# Altium schematic symbol library kmilo17pet-NSC_Switcher.SchLib: 2226 symbols (part 48 of 59)
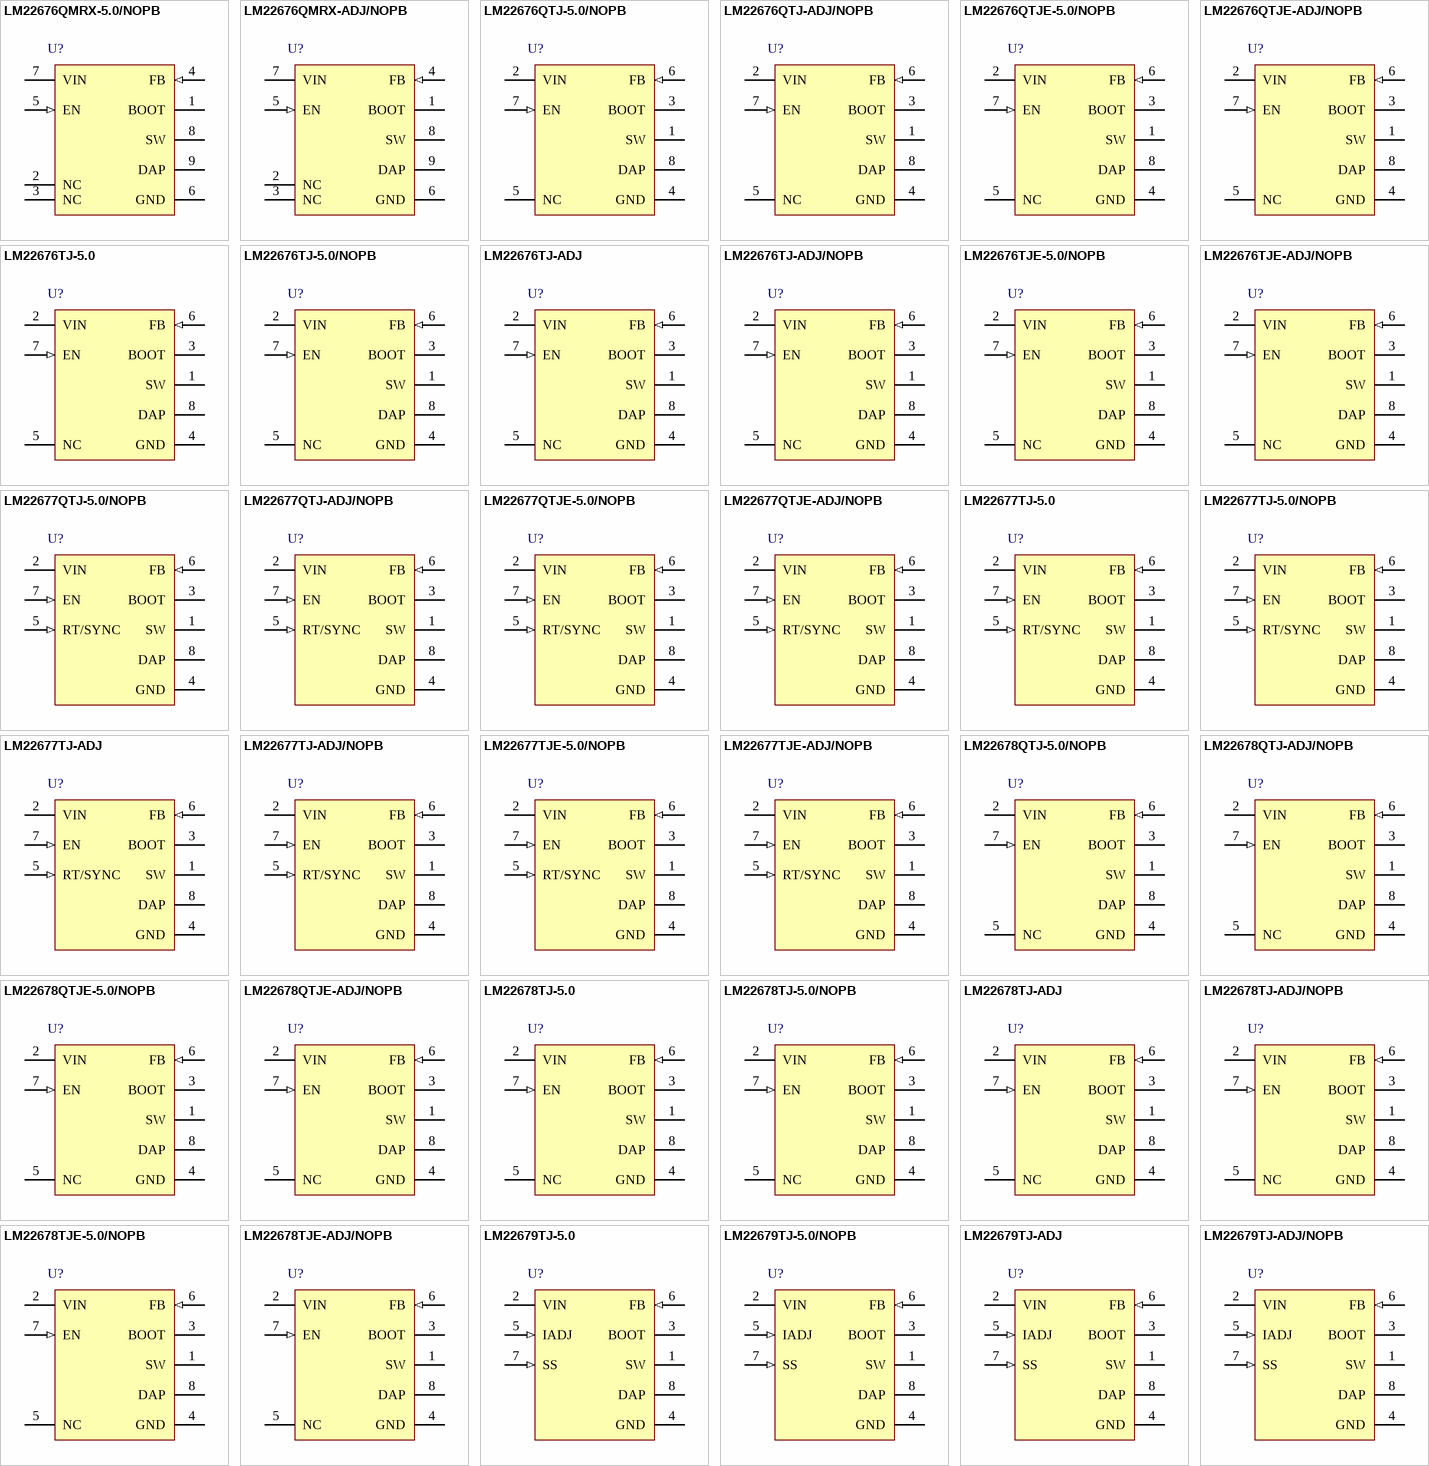
[diagram p116: symbols LM22676QMRX-5.0/NOPB to LM22679TJ-ADJ/NOPB]

## LM22676QMRX-ADJ/NOPB
designator U?
3A SIMPLE SWITCHER®, Step-Down Voltage Regulator with Precision Enable, Adjustable Output, Automotive Grade, 8-pin PSOP, 2500 Reel; PartNumber: LM22676QMRX-ADJ/NOPB; Manufacturer: National Semiconductor; PackageTopMarking: NSXYTT*L22676*QADJ; PowerWise: N; High-Reliability: Y; DatasheetVersion: Dec-2010; PackageVersion: revB, Dec-2007; PackageReference: MRA08B; PackageDescription: Molded, PSOP .193 x .154 x .058in, 8 Lead, .050in Pitch, Large DAP; RoHS: Y; PinCount: 8; CompType: Switcher; Code_JEDEC: MS-012-AA; ComponentLink1Description: Manufacturer URL; ComponentLink1URL: http://www.national.com/; ComponentLink2Description: LM22676 Datasheet; ComponentLink2URL: http://www.national.com/ds/LM/LM22676.pdf; ComponentLink3Description: LM22676 Web Page; ComponentLink3URL: http://www.national.com/pf/LM/LM22676.html; ComponentLink4Description: MRA08B Package Page; ComponentLink4URL: http://www.national.com/packaging/folders/mra08b.html
footprint MRA08B_N (SOIC, 8-Leads, Body 4.9x3.9mm, Pitch 1.27mm, Thermal Pad, IPC Medium Density)
footprint MRA08B_L (SOIC, 8-Leads, Body 4.9x3.9mm, Pitch 1.27mm, Thermal Pad, IPC High Density)
footprint MRA08B_M (SOIC, 8-Leads, Body 4.9x3.9mm, Pitch 1.27mm, Thermal Pad, IPC Low Density)
pins: 1 BOOT, 2 NC, 3 NC, 4 FB (in), 5 EN (in), 6 GND (power), 7 VIN (power), 8 SW (power), 9 DAP (power)

## LM22676QTJ-5.0/NOPB
designator U?
3A SIMPLE SWITCHER®, Step-Down Voltage Regulator with Precision Enable, 5V Output, Automotive Grade, 7-pin TO-263 Thin; PartNumber: LM22676QTJ-5.0/NOPB; Manufacturer: National Semiconductor; PackageTopMarking: NSUZXYTTE#*LM22676*QTJ-5.0; PowerWise: N; High-Reliability: Y; DatasheetVersion: Dec-2010; PackageVersion: revC, Jan-2008; PackageReference: TJ7A; PackageDescription: Thin TO-263, Molded, 9.85 x 10.16 x 2mm Body, 7 Lead, 1.27mm Pitch, Surface Mount; RoHS: Y; PinCount: 7; CompType: Switcher; ComponentLink1Description: Manufacturer URL; ComponentLink1URL: http://www.national.com/; ComponentLink2Description: LM22676 Datasheet; ComponentLink2URL: http://www.national.com/ds/LM/LM22676.pdf; ComponentLink3Description: LM22676 Web Page; ComponentLink3URL: http://www.national.com/pf/LM/LM22676.html; ComponentLink4Description: TJ7A Package Page; ComponentLink4URL: http://www.national.com/packaging/folders/tj7a.html
footprint TJ7A_N (D2-PAK, 8-Leads, Body 9.9x10.2mm, Pitch 1.27mm, Lead Span 14mm, IPC Medium Density)
footprint TJ7A_L (D2-PAK, 8-Leads, Body 9.9x10.2mm, Pitch 1.27mm, Lead Span 14mm, IPC High Density)
footprint TJ7A_M (D2-PAK, 8-Leads, Body 9.9x10.2mm, Pitch 1.27mm, Lead Span 14mm, IPC Low Density)
pins: 1 SW (power), 2 VIN (power), 3 BOOT, 4 GND (power), 5 NC, 6 FB (in), 7 EN (in), 8 DAP (power)

## LM22676QTJ-ADJ/NOPB
designator U?
3A SIMPLE SWITCHER®, Step-Down Voltage Regulator with Precision Enable, Adjustable Output, Automotive Grade, 7-pin TO-263 Thin, 1000 Reel; PartNumber: LM22676QTJ-ADJ/NOPB; Manufacturer: National Semiconductor; PackageTopMarking: NSUZXYTTE#*LM22676*QTJ-ADJ; PowerWise: N; High-Reliability: Y; DatasheetVersion: Dec-2010; PackageVersion: revC, Jan-2008; PackageReference: TJ7A; PackageDescription: Thin TO-263, Molded, 9.85 x 10.16 x 2mm Body, 7 Lead, 1.27mm Pitch, Surface Mount; RoHS: Y; PinCount: 7; CompType: Switcher; ComponentLink1Description: Manufacturer URL; ComponentLink1URL: http://www.national.com/; ComponentLink2Description: LM22676 Datasheet; ComponentLink2URL: http://www.national.com/ds/LM/LM22676.pdf; ComponentLink3Description: LM22676 Web Page; ComponentLink3URL: http://www.national.com/pf/LM/LM22676.html; ComponentLink4Description: TJ7A Package Page; ComponentLink4URL: http://www.national.com/packaging/folders/tj7a.html
footprint TJ7A_N (D2-PAK, 8-Leads, Body 9.9x10.2mm, Pitch 1.27mm, Lead Span 14mm, IPC Medium Density)
footprint TJ7A_L (D2-PAK, 8-Leads, Body 9.9x10.2mm, Pitch 1.27mm, Lead Span 14mm, IPC High Density)
footprint TJ7A_M (D2-PAK, 8-Leads, Body 9.9x10.2mm, Pitch 1.27mm, Lead Span 14mm, IPC Low Density)
pins: 1 SW (power), 2 VIN (power), 3 BOOT, 4 GND (power), 5 NC, 6 FB (in), 7 EN (in), 8 DAP (power)

## LM22676QTJE-5.0/NOPB
designator U?
3A SIMPLE SWITCHER®, Step-Down Voltage Regulator with Precision Enable, 5V Output, Automotive Grade, 7-pin TO-263 Thin; PartNumber: LM22676QTJE-5.0/NOPB; Manufacturer: National Semiconductor; PackageTopMarking: NSUZXYTTE#*LM22676*QTJ-5.0; PowerWise: N; High-Reliability: Y; DatasheetVersion: Dec-2010; PackageVersion: revC, Jan-2008; PackageReference: TJ7A; PackageDescription: Thin TO-263, Molded, 9.85 x 10.16 x 2mm Body, 7 Lead, 1.27mm Pitch, Surface Mount; RoHS: Y; PinCount: 7; CompType: Switcher; ComponentLink1Description: Manufacturer URL; ComponentLink1URL: http://www.national.com/; ComponentLink2Description: LM22676 Datasheet; ComponentLink2URL: http://www.national.com/ds/LM/LM22676.pdf; ComponentLink3Description: LM22676 Web Page; ComponentLink3URL: http://www.national.com/pf/LM/LM22676.html; ComponentLink4Description: TJ7A Package Page; ComponentLink4URL: http://www.national.com/packaging/folders/tj7a.html
footprint TJ7A_N (D2-PAK, 8-Leads, Body 9.9x10.2mm, Pitch 1.27mm, Lead Span 14mm, IPC Medium Density)
footprint TJ7A_L (D2-PAK, 8-Leads, Body 9.9x10.2mm, Pitch 1.27mm, Lead Span 14mm, IPC High Density)
footprint TJ7A_M (D2-PAK, 8-Leads, Body 9.9x10.2mm, Pitch 1.27mm, Lead Span 14mm, IPC Low Density)
pins: 1 SW (power), 2 VIN (power), 3 BOOT, 4 GND (power), 5 NC, 6 FB (in), 7 EN (in), 8 DAP (power)

## LM22676QTJE-ADJ/NOPB
designator U?
3A SIMPLE SWITCHER®, Step-Down Voltage Regulator with Precision Enable, Adjustable Output, Automotive Grade, 7-pin TO-263 Thin, 250 Reel; PartNumber: LM22676QTJE-ADJ/NOPB; Manufacturer: National Semiconductor; PackageTopMarking: NSUZXYTTE#*LM22676*QTJ-ADJ; PowerWise: N; High-Reliability: Y; DatasheetVersion: Dec-2010; PackageVersion: revC, Jan-2008; PackageReference: TJ7A; PackageDescription: Thin TO-263, Molded, 9.85 x 10.16 x 2mm Body, 7 Lead, 1.27mm Pitch, Surface Mount; RoHS: Y; PinCount: 7; CompType: Switcher; ComponentLink1Description: Manufacturer URL; ComponentLink1URL: http://www.national.com/; ComponentLink2Description: LM22676 Datasheet; ComponentLink2URL: http://www.national.com/ds/LM/LM22676.pdf; ComponentLink3Description: LM22676 Web Page; ComponentLink3URL: http://www.national.com/pf/LM/LM22676.html; ComponentLink4Description: TJ7A Package Page; ComponentLink4URL: http://www.national.com/packaging/folders/tj7a.html
footprint TJ7A_N (D2-PAK, 8-Leads, Body 9.9x10.2mm, Pitch 1.27mm, Lead Span 14mm, IPC Medium Density)
footprint TJ7A_L (D2-PAK, 8-Leads, Body 9.9x10.2mm, Pitch 1.27mm, Lead Span 14mm, IPC High Density)
footprint TJ7A_M (D2-PAK, 8-Leads, Body 9.9x10.2mm, Pitch 1.27mm, Lead Span 14mm, IPC Low Density)
pins: 1 SW (power), 2 VIN (power), 3 BOOT, 4 GND (power), 5 NC, 6 FB (in), 7 EN (in), 8 DAP (power)

## LM22676TJ-5.0
designator U?
3A SIMPLE SWITCHER® Step-Down Voltage Regulator with Precision Enable, 7-pin TO-263 Thin; PartNumber: LM22676TJ-5.0; Manufacturer: National Semiconductor; PackageTopMarking: NSUZXYTTE#*LM22676*TJ-5.0; PowerWise: N; High-Reliability: Y; DatasheetVersion: Dec-2010; PackageVersion: revC, Jan-2008; PackageReference: TJ7A; PackageDescription: Thin TO-263, Molded, 9.85 x 10.16 x 2mm Body, 7 Lead, 1.27mm Pitch, Surface Mount; RoHS: Y; PinCount: 7; CompType: Switcher; ComponentLink1Description: Manufacturer URL; ComponentLink1URL: http://www.national.com/; ComponentLink2Description: LM22676 Datasheet; ComponentLink2URL: http://www.national.com/ds/LM/LM22676.pdf; ComponentLink3Description: LM22676 Web Page; ComponentLink3URL: http://www.national.com/pf/LM/LM22676.html; ComponentLink4Description: TJ7A Package Page; ComponentLink4URL: http://www.national.com/packaging/folders/tj7a.html
footprint TJ7A_N (D2-PAK, 8-Leads, Body 9.9x10.2mm, Pitch 1.27mm, Lead Span 14mm, IPC Medium Density)
footprint TJ7A_L (D2-PAK, 8-Leads, Body 9.9x10.2mm, Pitch 1.27mm, Lead Span 14mm, IPC High Density)
footprint TJ7A_M (D2-PAK, 8-Leads, Body 9.9x10.2mm, Pitch 1.27mm, Lead Span 14mm, IPC Low Density)
pins: 1 SW (power), 2 VIN (power), 3 BOOT, 4 GND (power), 5 NC, 6 FB (in), 7 EN (in), 8 DAP (power)

## LM22676TJ-5.0/NOPB
designator U?
3A SIMPLE SWITCHER®, Step-Down Voltage Regulator with Precision Enable, 7-pin TO-263 Thin, Pb-Free; PartNumber: LM22676TJ-5.0/NOPB; Manufacturer: National Semiconductor; PackageTopMarking: NSUZXYTTE#*LM22676*TJ-5.0; PowerWise: N; High-Reliability: Y; DatasheetVersion: Dec-2010; PackageVersion: revC, Jan-2008; PackageReference: TJ7A; PackageDescription: Thin TO-263, Molded, 9.85 x 10.16 x 2mm Body, 7 Lead, 1.27mm Pitch, Surface Mount; RoHS: Y; PinCount: 7; CompType: Switcher; ComponentLink1Description: Manufacturer URL; ComponentLink1URL: http://www.national.com/; ComponentLink2Description: LM22676 Datasheet; ComponentLink2URL: http://www.national.com/ds/LM/LM22676.pdf; ComponentLink3Description: LM22676 Web Page; ComponentLink3URL: http://www.national.com/pf/LM/LM22676.html; ComponentLink4Description: TJ7A Package Page; ComponentLink4URL: http://www.national.com/packaging/folders/tj7a.html
footprint TJ7A_N (D2-PAK, 8-Leads, Body 9.9x10.2mm, Pitch 1.27mm, Lead Span 14mm, IPC Medium Density)
footprint TJ7A_L (D2-PAK, 8-Leads, Body 9.9x10.2mm, Pitch 1.27mm, Lead Span 14mm, IPC High Density)
footprint TJ7A_M (D2-PAK, 8-Leads, Body 9.9x10.2mm, Pitch 1.27mm, Lead Span 14mm, IPC Low Density)
pins: 1 SW (power), 2 VIN (power), 3 BOOT, 4 GND (power), 5 NC, 6 FB (in), 7 EN (in), 8 DAP (power)

## LM22676TJ-ADJ
designator U?
3A SIMPLE SWITCHER® Step-Down Voltage Regulator with Precision Enable, 7-pin TO-263 Thin; PartNumber: LM22676TJ-ADJ; Manufacturer: National Semiconductor; PackageTopMarking: NSUZXYTTE#*LM22676*TJ-ADJ; PowerWise: N; High-Reliability: Y; DatasheetVersion: Dec-2010; PackageVersion: revC, Jan-2008; PackageReference: TJ7A; PackageDescription: Thin TO-263, Molded, 9.85 x 10.16 x 2mm Body, 7 Lead, 1.27mm Pitch, Surface Mount; RoHS: Y; PinCount: 7; CompType: Switcher; ComponentLink1Description: Manufacturer URL; ComponentLink1URL: http://www.national.com/; ComponentLink2Description: LM22676 Datasheet; ComponentLink2URL: http://www.national.com/ds/LM/LM22676.pdf; ComponentLink3Description: LM22676 Web Page; ComponentLink3URL: http://www.national.com/pf/LM/LM22676.html; ComponentLink4Description: TJ7A Package Page; ComponentLink4URL: http://www.national.com/packaging/folders/tj7a.html
footprint TJ7A_N (D2-PAK, 8-Leads, Body 9.9x10.2mm, Pitch 1.27mm, Lead Span 14mm, IPC Medium Density)
footprint TJ7A_L (D2-PAK, 8-Leads, Body 9.9x10.2mm, Pitch 1.27mm, Lead Span 14mm, IPC High Density)
footprint TJ7A_M (D2-PAK, 8-Leads, Body 9.9x10.2mm, Pitch 1.27mm, Lead Span 14mm, IPC Low Density)
pins: 1 SW (power), 2 VIN (power), 3 BOOT, 4 GND (power), 5 NC, 6 FB (in), 7 EN (in), 8 DAP (power)

## LM22676TJ-ADJ/NOPB
designator U?
3A SIMPLE SWITCHER®, Step-Down Voltage Regulator with Precision Enable, 7-pin TO-263 Thin, Pb-Free; PartNumber: LM22676TJ-ADJ/NOPB; Manufacturer: National Semiconductor; PackageTopMarking: NSUZXYTTE#*LM22676*TJ-ADJ; PowerWise: N; High-Reliability: Y; DatasheetVersion: Dec-2010; PackageVersion: revC, Jan-2008; PackageReference: TJ7A; PackageDescription: Thin TO-263, Molded, 9.85 x 10.16 x 2mm Body, 7 Lead, 1.27mm Pitch, Surface Mount; RoHS: Y; PinCount: 7; CompType: Switcher; ComponentLink1Description: Manufacturer URL; ComponentLink1URL: http://www.national.com/; ComponentLink2Description: LM22676 Datasheet; ComponentLink2URL: http://www.national.com/ds/LM/LM22676.pdf; ComponentLink3Description: LM22676 Web Page; ComponentLink3URL: http://www.national.com/pf/LM/LM22676.html; ComponentLink4Description: TJ7A Package Page; ComponentLink4URL: http://www.national.com/packaging/folders/tj7a.html
footprint TJ7A_N (D2-PAK, 8-Leads, Body 9.9x10.2mm, Pitch 1.27mm, Lead Span 14mm, IPC Medium Density)
footprint TJ7A_L (D2-PAK, 8-Leads, Body 9.9x10.2mm, Pitch 1.27mm, Lead Span 14mm, IPC High Density)
footprint TJ7A_M (D2-PAK, 8-Leads, Body 9.9x10.2mm, Pitch 1.27mm, Lead Span 14mm, IPC Low Density)
pins: 1 SW (power), 2 VIN (power), 3 BOOT, 4 GND (power), 5 NC, 6 FB (in), 7 EN (in), 8 DAP (power)

## LM22676TJE-5.0/NOPB
designator U?
3A SIMPLE SWITCHER®, Step-Down Voltage Regulator with Precision Enable, 7-pin TO-263 Thin, Pb-Free; PartNumber: LM22676TJE-5.0/NOPB; Manufacturer: National Semiconductor; PackageTopMarking: NSUZXYTTE#*LM22676*TJ-5.0; PowerWise: N; High-Reliability: Y; DatasheetVersion: Dec-2010; PackageVersion: revC, Jan-2008; PackageReference: TJ7A; PackageDescription: Thin TO-263, Molded, 9.85 x 10.16 x 2mm Body, 7 Lead, 1.27mm Pitch, Surface Mount; RoHS: Y; PinCount: 7; CompType: Switcher; ComponentLink1Description: Manufacturer URL; ComponentLink1URL: http://www.national.com/; ComponentLink2Description: LM22676 Datasheet; ComponentLink2URL: http://www.national.com/ds/LM/LM22676.pdf; ComponentLink3Description: LM22676 Web Page; ComponentLink3URL: http://www.national.com/pf/LM/LM22676.html; ComponentLink4Description: TJ7A Package Page; ComponentLink4URL: http://www.national.com/packaging/folders/tj7a.html
footprint TJ7A_N (D2-PAK, 8-Leads, Body 9.9x10.2mm, Pitch 1.27mm, Lead Span 14mm, IPC Medium Density)
footprint TJ7A_L (D2-PAK, 8-Leads, Body 9.9x10.2mm, Pitch 1.27mm, Lead Span 14mm, IPC High Density)
footprint TJ7A_M (D2-PAK, 8-Leads, Body 9.9x10.2mm, Pitch 1.27mm, Lead Span 14mm, IPC Low Density)
pins: 1 SW (power), 2 VIN (power), 3 BOOT, 4 GND (power), 5 NC, 6 FB (in), 7 EN (in), 8 DAP (power)

## LM22676TJE-ADJ/NOPB
designator U?
3A SIMPLE SWITCHER®, Step-Down Voltage Regulator with Precision Enable, 7-pin TO-263 Thin, Pb-Free; PartNumber: LM22676TJE-ADJ/NOPB; Manufacturer: National Semiconductor; PackageTopMarking: NSUZXYTTE#*LM22676*TJ-ADJ; PowerWise: N; High-Reliability: Y; DatasheetVersion: Dec-2010; PackageVersion: revC, Jan-2008; PackageReference: TJ7A; PackageDescription: Thin TO-263, Molded, 9.85 x 10.16 x 2mm Body, 7 Lead, 1.27mm Pitch, Surface Mount; RoHS: Y; PinCount: 7; CompType: Switcher; ComponentLink1Description: Manufacturer URL; ComponentLink1URL: http://www.national.com/; ComponentLink2Description: LM22676 Datasheet; ComponentLink2URL: http://www.national.com/ds/LM/LM22676.pdf; ComponentLink3Description: LM22676 Web Page; ComponentLink3URL: http://www.national.com/pf/LM/LM22676.html; ComponentLink4Description: TJ7A Package Page; ComponentLink4URL: http://www.national.com/packaging/folders/tj7a.html
footprint TJ7A_N (D2-PAK, 8-Leads, Body 9.9x10.2mm, Pitch 1.27mm, Lead Span 14mm, IPC Medium Density)
footprint TJ7A_L (D2-PAK, 8-Leads, Body 9.9x10.2mm, Pitch 1.27mm, Lead Span 14mm, IPC High Density)
footprint TJ7A_M (D2-PAK, 8-Leads, Body 9.9x10.2mm, Pitch 1.27mm, Lead Span 14mm, IPC Low Density)
pins: 1 SW (power), 2 VIN (power), 3 BOOT, 4 GND (power), 5 NC, 6 FB (in), 7 EN (in), 8 DAP (power)

## LM22677QTJ-5.0/NOPB
designator U?
5A SIMPLE SWITCHER®, Step-Down Voltage Regulator with Synchronization or Adjustable Switching Frequency, 5V Output, Automotive Grade, 7-pin TO-263 Thin, 1000 Reel; PartNumber: LM22677QTJ-5.0/NOPB; Manufacturer: National Semiconductor; PackageTopMarking: NSUZXYTTE#*LM22677*QTJ-5.0; PowerWise: N; High-Reliability: Y; DatasheetVersion: Jan-2011; PackageVersion: revC, Jan-2008; PackageReference: TJ7A; PackageDescription: Thin TO-263, Molded, 9.85 x 10.16 x 2mm Body, 7 Lead, 1.27mm Pitch, Surface Mount; RoHS: Y; PinCount: 7; CompType: Switcher; ComponentLink1Description: Manufacturer URL; ComponentLink1URL: http://www.national.com/; ComponentLink2Description: LM22677 Datasheet; ComponentLink2URL: http://www.national.com/ds/LM/LM22677.pdf; ComponentLink3Description: LM22677 Web Page; ComponentLink3URL: http://www.national.com/pf/LM/LM22677.html; ComponentLink4Description: TJ7A Package Page; ComponentLink4URL: http://www.national.com/packaging/folders/tj7a.html
footprint TJ7A_N (D2-PAK, 8-Leads, Body 9.9x10.2mm, Pitch 1.27mm, Lead Span 14mm, IPC Medium Density)
footprint TJ7A_L (D2-PAK, 8-Leads, Body 9.9x10.2mm, Pitch 1.27mm, Lead Span 14mm, IPC High Density)
footprint TJ7A_M (D2-PAK, 8-Leads, Body 9.9x10.2mm, Pitch 1.27mm, Lead Span 14mm, IPC Low Density)
pins: 1 SW (power), 2 VIN (power), 3 BOOT, 4 GND (power), 5 RT/SYNC (in), 6 FB (in), 7 EN (in), 8 DAP (power)

## LM22677QTJ-ADJ/NOPB
designator U?
5A SIMPLE SWITCHER®, Step-Down Voltage Regulator with Synchronization or Adjustable Switching Frequency, Adjustable Output, Automotive Grade, 7-pin TO-263 Thin, 1000 Reel; PartNumber: LM22677QTJ-ADJ/NOPB; Manufacturer: National Semiconductor; PackageTopMarking: NSUZXYTTE#*LM22677*QTJ-ADJ; PowerWise: N; High-Reliability: Y; DatasheetVersion: Jan-2011; PackageVersion: revC, Jan-2008; PackageReference: TJ7A; PackageDescription: Thin TO-263, Molded, 9.85 x 10.16 x 2mm Body, 7 Lead, 1.27mm Pitch, Surface Mount; RoHS: Y; PinCount: 7; CompType: Switcher; ComponentLink1Description: Manufacturer URL; ComponentLink1URL: http://www.national.com/; ComponentLink2Description: LM22677 Datasheet; ComponentLink2URL: http://www.national.com/ds/LM/LM22677.pdf; ComponentLink3Description: LM22677 Web Page; ComponentLink3URL: http://www.national.com/pf/LM/LM22677.html; ComponentLink4Description: TJ7A Package Page; ComponentLink4URL: http://www.national.com/packaging/folders/tj7a.html
footprint TJ7A_N (D2-PAK, 8-Leads, Body 9.9x10.2mm, Pitch 1.27mm, Lead Span 14mm, IPC Medium Density)
footprint TJ7A_L (D2-PAK, 8-Leads, Body 9.9x10.2mm, Pitch 1.27mm, Lead Span 14mm, IPC High Density)
footprint TJ7A_M (D2-PAK, 8-Leads, Body 9.9x10.2mm, Pitch 1.27mm, Lead Span 14mm, IPC Low Density)
pins: 1 SW (power), 2 VIN (power), 3 BOOT, 4 GND (power), 5 RT/SYNC (in), 6 FB (in), 7 EN (in), 8 DAP (power)

## LM22677QTJE-5.0/NOPB
designator U?
5A SIMPLE SWITCHER®, Step-Down Voltage Regulator with Synchronization or Adjustable Switching Frequency, 5V Output, Automotive Grade, 7-pin TO-263 Thin, 250 Reel; PartNumber: LM22677QTJE-5.0/NOPB; Manufacturer: National Semiconductor; PackageTopMarking: NSUZXYTTE#*LM22677*QTJ-5.0; PowerWise: N; High-Reliability: Y; DatasheetVersion: Jan-2011; PackageVersion: revC, Jan-2008; PackageReference: TJ7A; PackageDescription: Thin TO-263, Molded, 9.85 x 10.16 x 2mm Body, 7 Lead, 1.27mm Pitch, Surface Mount; RoHS: Y; PinCount: 7; CompType: Switcher; ComponentLink1Description: Manufacturer URL; ComponentLink1URL: http://www.national.com/; ComponentLink2Description: LM22677 Datasheet; ComponentLink2URL: http://www.national.com/ds/LM/LM22677.pdf; ComponentLink3Description: LM22677 Web Page; ComponentLink3URL: http://www.national.com/pf/LM/LM22677.html; ComponentLink4Description: TJ7A Package Page; ComponentLink4URL: http://www.national.com/packaging/folders/tj7a.html
footprint TJ7A_N (D2-PAK, 8-Leads, Body 9.9x10.2mm, Pitch 1.27mm, Lead Span 14mm, IPC Medium Density)
footprint TJ7A_L (D2-PAK, 8-Leads, Body 9.9x10.2mm, Pitch 1.27mm, Lead Span 14mm, IPC High Density)
footprint TJ7A_M (D2-PAK, 8-Leads, Body 9.9x10.2mm, Pitch 1.27mm, Lead Span 14mm, IPC Low Density)
pins: 1 SW (power), 2 VIN (power), 3 BOOT, 4 GND (power), 5 RT/SYNC (in), 6 FB (in), 7 EN (in), 8 DAP (power)

## LM22677QTJE-ADJ/NOPB
designator U?
5A SIMPLE SWITCHER®, Step-Down Voltage Regulator with Synchronization or Adjustable Switching Frequency, Adjustable Output, Automotive Grade, 7-pin TO-263 Thin; PartNumber: LM22677QTJE-ADJ/NOPB; Manufacturer: National Semiconductor; PackageTopMarking: NSUZXYTTE#*LM22677*QTJ-ADJ; PowerWise: N; High-Reliability: Y; DatasheetVersion: Jan-2011; PackageVersion: revC, Jan-2008; PackageReference: TJ7A; PackageDescription: Thin TO-263, Molded, 9.85 x 10.16 x 2mm Body, 7 Lead, 1.27mm Pitch, Surface Mount; RoHS: Y; PinCount: 7; CompType: Switcher; ComponentLink1Description: Manufacturer URL; ComponentLink1URL: http://www.national.com/; ComponentLink2Description: LM22677 Datasheet; ComponentLink2URL: http://www.national.com/ds/LM/LM22677.pdf; ComponentLink3Description: LM22677 Web Page; ComponentLink3URL: http://www.national.com/pf/LM/LM22677.html; ComponentLink4Description: TJ7A Package Page; ComponentLink4URL: http://www.national.com/packaging/folders/tj7a.html
footprint TJ7A_N (D2-PAK, 8-Leads, Body 9.9x10.2mm, Pitch 1.27mm, Lead Span 14mm, IPC Medium Density)
footprint TJ7A_L (D2-PAK, 8-Leads, Body 9.9x10.2mm, Pitch 1.27mm, Lead Span 14mm, IPC High Density)
footprint TJ7A_M (D2-PAK, 8-Leads, Body 9.9x10.2mm, Pitch 1.27mm, Lead Span 14mm, IPC Low Density)
pins: 1 SW (power), 2 VIN (power), 3 BOOT, 4 GND (power), 5 RT/SYNC (in), 6 FB (in), 7 EN (in), 8 DAP (power)

## LM22677TJ-5.0
designator U?
5A SIMPLE SWITCHER® Step-Down Voltage Regulator with Synchronization or Adjustable Switching Frequency, 7-pin TO-263 Thin; PartNumber: LM22677TJ-5.0; Manufacturer: National Semiconductor; PackageTopMarking: NSUZXYTTE#*LM22677*TJ-5.0; PowerWise: N; High-Reliability: Y; DatasheetVersion: Jan-2011; PackageVersion: revC, Jan-2008; PackageReference: TJ7A; PackageDescription: Thin TO-263, Molded, 9.85 x 10.16 x 2mm Body, 7 Lead, 1.27mm Pitch, Surface Mount; RoHS: Y; PinCount: 7; CompType: Switcher; ComponentLink1Description: Manufacturer URL; ComponentLink1URL: http://www.national.com/; ComponentLink2Description: LM22677 Datasheet; ComponentLink2URL: http://www.national.com/ds/LM/LM22677.pdf; ComponentLink3Description: LM22677 Web Page; ComponentLink3URL: http://www.national.com/pf/LM/LM22677.html; ComponentLink4Description: TJ7A Package Page; ComponentLink4URL: http://www.national.com/packaging/folders/tj7a.html
footprint TJ7A_N (D2-PAK, 8-Leads, Body 9.9x10.2mm, Pitch 1.27mm, Lead Span 14mm, IPC Medium Density)
footprint TJ7A_L (D2-PAK, 8-Leads, Body 9.9x10.2mm, Pitch 1.27mm, Lead Span 14mm, IPC High Density)
footprint TJ7A_M (D2-PAK, 8-Leads, Body 9.9x10.2mm, Pitch 1.27mm, Lead Span 14mm, IPC Low Density)
pins: 1 SW (power), 2 VIN (power), 3 BOOT, 4 GND (power), 5 RT/SYNC (in), 6 FB (in), 7 EN (in), 8 DAP (power)

## LM22677TJ-5.0/NOPB
designator U?
5A SIMPLE SWITCHER®, Step-Down Voltage Regulator with Synchronization or Adjustable Switching Frequency, 7-pin TO-263 Thin, Pb-Free; PartNumber: LM22677TJ-5.0/NOPB; Manufacturer: National Semiconductor; PackageTopMarking: NSUZXYTTE#*LM22677*TJ-5.0; PowerWise: N; High-Reliability: Y; DatasheetVersion: Jan-2011; PackageVersion: revC, Jan-2008; PackageReference: TJ7A; PackageDescription: Thin TO-263, Molded, 9.85 x 10.16 x 2mm Body, 7 Lead, 1.27mm Pitch, Surface Mount; RoHS: Y; PinCount: 7; CompType: Switcher; ComponentLink1Description: Manufacturer URL; ComponentLink1URL: http://www.national.com/; ComponentLink2Description: LM22677 Datasheet; ComponentLink2URL: http://www.national.com/ds/LM/LM22677.pdf; ComponentLink3Description: LM22677 Web Page; ComponentLink3URL: http://www.national.com/pf/LM/LM22677.html; ComponentLink4Description: TJ7A Package Page; ComponentLink4URL: http://www.national.com/packaging/folders/tj7a.html
footprint TJ7A_N (D2-PAK, 8-Leads, Body 9.9x10.2mm, Pitch 1.27mm, Lead Span 14mm, IPC Medium Density)
footprint TJ7A_L (D2-PAK, 8-Leads, Body 9.9x10.2mm, Pitch 1.27mm, Lead Span 14mm, IPC High Density)
footprint TJ7A_M (D2-PAK, 8-Leads, Body 9.9x10.2mm, Pitch 1.27mm, Lead Span 14mm, IPC Low Density)
pins: 1 SW (power), 2 VIN (power), 3 BOOT, 4 GND (power), 5 RT/SYNC (in), 6 FB (in), 7 EN (in), 8 DAP (power)

## LM22677TJ-ADJ
designator U?
5A SIMPLE SWITCHER® Step-Down Voltage Regulator with Synchronization or Adjustable Switching Frequency, 7-pin TO-263 Thin; PartNumber: LM22677TJ-ADJ; Manufacturer: National Semiconductor; PackageTopMarking: NSUZXYTTE#*LM22677*TJ-ADJ; PowerWise: N; High-Reliability: Y; DatasheetVersion: Jan-2011; PackageVersion: revC, Jan-2008; PackageReference: TJ7A; PackageDescription: Thin TO-263, Molded, 9.85 x 10.16 x 2mm Body, 7 Lead, 1.27mm Pitch, Surface Mount; RoHS: Y; PinCount: 7; CompType: Switcher; ComponentLink1Description: Manufacturer URL; ComponentLink1URL: http://www.national.com/; ComponentLink2Description: LM22677 Datasheet; ComponentLink2URL: http://www.national.com/ds/LM/LM22677.pdf; ComponentLink3Description: LM22677 Web Page; ComponentLink3URL: http://www.national.com/pf/LM/LM22677.html; ComponentLink4Description: TJ7A Package Page; ComponentLink4URL: http://www.national.com/packaging/folders/tj7a.html
footprint TJ7A_N (D2-PAK, 8-Leads, Body 9.9x10.2mm, Pitch 1.27mm, Lead Span 14mm, IPC Medium Density)
footprint TJ7A_L (D2-PAK, 8-Leads, Body 9.9x10.2mm, Pitch 1.27mm, Lead Span 14mm, IPC High Density)
footprint TJ7A_M (D2-PAK, 8-Leads, Body 9.9x10.2mm, Pitch 1.27mm, Lead Span 14mm, IPC Low Density)
pins: 1 SW (power), 2 VIN (power), 3 BOOT, 4 GND (power), 5 RT/SYNC (in), 6 FB (in), 7 EN (in), 8 DAP (power)

## LM22677TJ-ADJ/NOPB
designator U?
5A SIMPLE SWITCHER®, Step-Down Voltage Regulator with Synchronization or Adjustable Switching Frequency, 7-pin TO-263 Thin, Pb-Free; PartNumber: LM22677TJ-ADJ/NOPB; Manufacturer: National Semiconductor; PackageTopMarking: NSUZXYTTE#*LM22677*TJ-ADJ; PowerWise: N; High-Reliability: Y; DatasheetVersion: Jan-2011; PackageVersion: revC, Jan-2008; PackageReference: TJ7A; PackageDescription: Thin TO-263, Molded, 9.85 x 10.16 x 2mm Body, 7 Lead, 1.27mm Pitch, Surface Mount; RoHS: Y; PinCount: 7; CompType: Switcher; ComponentLink1Description: Manufacturer URL; ComponentLink1URL: http://www.national.com/; ComponentLink2Description: LM22677 Datasheet; ComponentLink2URL: http://www.national.com/ds/LM/LM22677.pdf; ComponentLink3Description: LM22677 Web Page; ComponentLink3URL: http://www.national.com/pf/LM/LM22677.html; ComponentLink4Description: TJ7A Package Page; ComponentLink4URL: http://www.national.com/packaging/folders/tj7a.html
footprint TJ7A_N (D2-PAK, 8-Leads, Body 9.9x10.2mm, Pitch 1.27mm, Lead Span 14mm, IPC Medium Density)
footprint TJ7A_L (D2-PAK, 8-Leads, Body 9.9x10.2mm, Pitch 1.27mm, Lead Span 14mm, IPC High Density)
footprint TJ7A_M (D2-PAK, 8-Leads, Body 9.9x10.2mm, Pitch 1.27mm, Lead Span 14mm, IPC Low Density)
pins: 1 SW (power), 2 VIN (power), 3 BOOT, 4 GND (power), 5 RT/SYNC (in), 6 FB (in), 7 EN (in), 8 DAP (power)

## LM22677TJE-5.0/NOPB
designator U?
5A SIMPLE SWITCHER®, Step-Down Voltage Regulator with Synchronization or Adjustable Switching Frequency, 7-pin TO-263 Thin, Pb-Free; PartNumber: LM22677TJE-5.0/NOPB; Manufacturer: National Semiconductor; PackageTopMarking: NSUZXYTTE#*LM22677*TJ-5.0; PowerWise: N; High-Reliability: Y; DatasheetVersion: Jan-2011; PackageVersion: revC, Jan-2008; PackageReference: TJ7A; PackageDescription: Thin TO-263, Molded, 9.85 x 10.16 x 2mm Body, 7 Lead, 1.27mm Pitch, Surface Mount; RoHS: Y; PinCount: 7; CompType: Switcher; ComponentLink1Description: Manufacturer URL; ComponentLink1URL: http://www.national.com/; ComponentLink2Description: LM22677 Datasheet; ComponentLink2URL: http://www.national.com/ds/LM/LM22677.pdf; ComponentLink3Description: LM22677 Web Page; ComponentLink3URL: http://www.national.com/pf/LM/LM22677.html; ComponentLink4Description: TJ7A Package Page; ComponentLink4URL: http://www.national.com/packaging/folders/tj7a.html
footprint TJ7A_N (D2-PAK, 8-Leads, Body 9.9x10.2mm, Pitch 1.27mm, Lead Span 14mm, IPC Medium Density)
footprint TJ7A_L (D2-PAK, 8-Leads, Body 9.9x10.2mm, Pitch 1.27mm, Lead Span 14mm, IPC High Density)
footprint TJ7A_M (D2-PAK, 8-Leads, Body 9.9x10.2mm, Pitch 1.27mm, Lead Span 14mm, IPC Low Density)
pins: 1 SW (power), 2 VIN (power), 3 BOOT, 4 GND (power), 5 RT/SYNC (in), 6 FB (in), 7 EN (in), 8 DAP (power)

## LM22677TJE-ADJ/NOPB
designator U?
5A SIMPLE SWITCHER®, Step-Down Voltage Regulator with Synchronization or Adjustable Switching Frequency, 7-pin TO-263 Thin, Pb-Free; PartNumber: LM22677TJE-ADJ/NOPB; Manufacturer: National Semiconductor; PackageTopMarking: NSUZXYTTE#*LM22677*TJ-ADJ; PowerWise: N; High-Reliability: Y; DatasheetVersion: Jan-2011; PackageVersion: revC, Jan-2008; PackageReference: TJ7A; PackageDescription: Thin TO-263, Molded, 9.85 x 10.16 x 2mm Body, 7 Lead, 1.27mm Pitch, Surface Mount; RoHS: Y; PinCount: 7; CompType: Switcher; ComponentLink1Description: Manufacturer URL; ComponentLink1URL: http://www.national.com/; ComponentLink2Description: LM22677 Datasheet; ComponentLink2URL: http://www.national.com/ds/LM/LM22677.pdf; ComponentLink3Description: LM22677 Web Page; ComponentLink3URL: http://www.national.com/pf/LM/LM22677.html; ComponentLink4Description: TJ7A Package Page; ComponentLink4URL: http://www.national.com/packaging/folders/tj7a.html
footprint TJ7A_N (D2-PAK, 8-Leads, Body 9.9x10.2mm, Pitch 1.27mm, Lead Span 14mm, IPC Medium Density)
footprint TJ7A_L (D2-PAK, 8-Leads, Body 9.9x10.2mm, Pitch 1.27mm, Lead Span 14mm, IPC High Density)
footprint TJ7A_M (D2-PAK, 8-Leads, Body 9.9x10.2mm, Pitch 1.27mm, Lead Span 14mm, IPC Low Density)
pins: 1 SW (power), 2 VIN (power), 3 BOOT, 4 GND (power), 5 RT/SYNC (in), 6 FB (in), 7 EN (in), 8 DAP (power)

## LM22678QTJ-5.0/NOPB
designator U?
5A SIMPLE SWITCHER®, Step-Down Voltage Regulator with Precision Enable, 5V Output, Automotive Grade, 7-pin TO-263 Thin, 1000 Reel; PartNumber: LM22678QTJ-5.0/NOPB; Manufacturer: National Semiconductor; PackageTopMarking: NSUZXYTTE#*LM22678*QTJ-5.0; PowerWise: N; High-Reliability: Y; DatasheetVersion: Dec-2010; PackageVersion: revC, Jan-2008; PackageReference: TJ7A; PackageDescription: Thin TO-263, Molded, 9.85 x 10.16 x 2mm Body, 7 Lead, 1.27mm Pitch, Surface Mount; RoHS: Y; PinCount: 7; CompType: Switcher; ComponentLink1Description: Manufacturer URL; ComponentLink1URL: http://www.national.com/; ComponentLink2Description: LM22678 Datasheet; ComponentLink2URL: http://www.national.com/ds/LM/LM22678.pdf; ComponentLink3Description: LM22678 Web Page; ComponentLink3URL: http://www.national.com/pf/LM/LM22678.html; ComponentLink4Description: TJ7A Package Page; ComponentLink4URL: http://www.national.com/packaging/folders/tj7a.html
footprint TJ7A_N (D2-PAK, 8-Leads, Body 9.9x10.2mm, Pitch 1.27mm, Lead Span 14mm, IPC Medium Density)
footprint TJ7A_L (D2-PAK, 8-Leads, Body 9.9x10.2mm, Pitch 1.27mm, Lead Span 14mm, IPC High Density)
footprint TJ7A_M (D2-PAK, 8-Leads, Body 9.9x10.2mm, Pitch 1.27mm, Lead Span 14mm, IPC Low Density)
pins: 1 SW (power), 2 VIN (power), 3 BOOT, 4 GND (power), 5 NC, 6 FB (in), 7 EN (in), 8 DAP (power)

## LM22678QTJ-ADJ/NOPB
designator U?
5A SIMPLE SWITCHER®, Step-Down Voltage Regulator with Precision Enable, Adjustable Output, Automotive Grade, 7-pin TO-263 Thin, 1000 Reel; PartNumber: LM22678QTJ-ADJ/NOPB; Manufacturer: National Semiconductor; PackageTopMarking: NSUZXYTTE#*LM22678*QTJ-ADJ; PowerWise: N; High-Reliability: Y; DatasheetVersion: Dec-2010; PackageVersion: revC, Jan-2008; PackageReference: TJ7A; PackageDescription: Thin TO-263, Molded, 9.85 x 10.16 x 2mm Body, 7 Lead, 1.27mm Pitch, Surface Mount; RoHS: Y; PinCount: 7; CompType: Switcher; ComponentLink1Description: Manufacturer URL; ComponentLink1URL: http://www.national.com/; ComponentLink2Description: LM22678 Datasheet; ComponentLink2URL: http://www.national.com/ds/LM/LM22678.pdf; ComponentLink3Description: LM22678 Web Page; ComponentLink3URL: http://www.national.com/pf/LM/LM22678.html; ComponentLink4Description: TJ7A Package Page; ComponentLink4URL: http://www.national.com/packaging/folders/tj7a.html
footprint TJ7A_N (D2-PAK, 8-Leads, Body 9.9x10.2mm, Pitch 1.27mm, Lead Span 14mm, IPC Medium Density)
footprint TJ7A_L (D2-PAK, 8-Leads, Body 9.9x10.2mm, Pitch 1.27mm, Lead Span 14mm, IPC High Density)
footprint TJ7A_M (D2-PAK, 8-Leads, Body 9.9x10.2mm, Pitch 1.27mm, Lead Span 14mm, IPC Low Density)
pins: 1 SW (power), 2 VIN (power), 3 BOOT, 4 GND (power), 5 NC, 6 FB (in), 7 EN (in), 8 DAP (power)

## LM22678QTJE-5.0/NOPB
designator U?
5A SIMPLE SWITCHER®, Step-Down Voltage Regulator with Precision Enable, 5V Output, Automotive Grade, 7-pin TO-263 Thin, 250 Reel; PartNumber: LM22678QTJE-5.0/NOPB; Manufacturer: National Semiconductor; PackageTopMarking: NSUZXYTTE#*LM22678*QTJ-5.0; PowerWise: N; High-Reliability: Y; DatasheetVersion: Dec-2010; PackageVersion: revC, Jan-2008; PackageReference: TJ7A; PackageDescription: Thin TO-263, Molded, 9.85 x 10.16 x 2mm Body, 7 Lead, 1.27mm Pitch, Surface Mount; RoHS: Y; PinCount: 7; CompType: Switcher; ComponentLink1Description: Manufacturer URL; ComponentLink1URL: http://www.national.com/; ComponentLink2Description: LM22678 Datasheet; ComponentLink2URL: http://www.national.com/ds/LM/LM22678.pdf; ComponentLink3Description: LM22678 Web Page; ComponentLink3URL: http://www.national.com/pf/LM/LM22678.html; ComponentLink4Description: TJ7A Package Page; ComponentLink4URL: http://www.national.com/packaging/folders/tj7a.html
footprint TJ7A_N (D2-PAK, 8-Leads, Body 9.9x10.2mm, Pitch 1.27mm, Lead Span 14mm, IPC Medium Density)
footprint TJ7A_L (D2-PAK, 8-Leads, Body 9.9x10.2mm, Pitch 1.27mm, Lead Span 14mm, IPC High Density)
footprint TJ7A_M (D2-PAK, 8-Leads, Body 9.9x10.2mm, Pitch 1.27mm, Lead Span 14mm, IPC Low Density)
pins: 1 SW (power), 2 VIN (power), 3 BOOT, 4 GND (power), 5 NC, 6 FB (in), 7 EN (in), 8 DAP (power)

## LM22678QTJE-ADJ/NOPB
designator U?
5A SIMPLE SWITCHER®, Step-Down Voltage Regulator with Precision Enable, Adjustable Output, Automotive Grade, 7-pin TO-263 Thin, 250 Reel; PartNumber: LM22678QTJE-ADJ/NOPB; Manufacturer: National Semiconductor; PackageTopMarking: NSUZXYTTE#*LM22678*QTJ-ADJ; PowerWise: N; High-Reliability: Y; DatasheetVersion: Dec-2010; PackageVersion: revC, Jan-2008; PackageReference: TJ7A; PackageDescription: Thin TO-263, Molded, 9.85 x 10.16 x 2mm Body, 7 Lead, 1.27mm Pitch, Surface Mount; RoHS: Y; PinCount: 7; CompType: Switcher; ComponentLink1Description: Manufacturer URL; ComponentLink1URL: http://www.national.com/; ComponentLink2Description: LM22678 Datasheet; ComponentLink2URL: http://www.national.com/ds/LM/LM22678.pdf; ComponentLink3Description: LM22678 Web Page; ComponentLink3URL: http://www.national.com/pf/LM/LM22678.html; ComponentLink4Description: TJ7A Package Page; ComponentLink4URL: http://www.national.com/packaging/folders/tj7a.html
footprint TJ7A_N (D2-PAK, 8-Leads, Body 9.9x10.2mm, Pitch 1.27mm, Lead Span 14mm, IPC Medium Density)
footprint TJ7A_L (D2-PAK, 8-Leads, Body 9.9x10.2mm, Pitch 1.27mm, Lead Span 14mm, IPC High Density)
footprint TJ7A_M (D2-PAK, 8-Leads, Body 9.9x10.2mm, Pitch 1.27mm, Lead Span 14mm, IPC Low Density)
pins: 1 SW (power), 2 VIN (power), 3 BOOT, 4 GND (power), 5 NC, 6 FB (in), 7 EN (in), 8 DAP (power)

## LM22678TJ-5.0
designator U?
5A SIMPLE SWITCHER® Step-Down Voltage Regulator with Precision Enable, 7-pin TO-263 Thin; PartNumber: LM22678TJ-5.0; Manufacturer: National Semiconductor; PackageTopMarking: NSUZXYTTE#*LM22678*TJ-5.0; PowerWise: N; High-Reliability: Y; DatasheetVersion: Dec-2010; PackageVersion: revC, Jan-2008; PackageReference: TJ7A; PackageDescription: Thin TO-263, Molded, 9.85 x 10.16 x 2mm Body, 7 Lead, 1.27mm Pitch, Surface Mount; RoHS: Y; PinCount: 7; CompType: Switcher; ComponentLink1Description: Manufacturer URL; ComponentLink1URL: http://www.national.com/; ComponentLink2Description: LM22678 Datasheet; ComponentLink2URL: http://www.national.com/ds/LM/LM22678.pdf; ComponentLink3Description: LM22678 Web Page; ComponentLink3URL: http://www.national.com/pf/LM/LM22678.html; ComponentLink4Description: TJ7A Package Page; ComponentLink4URL: http://www.national.com/packaging/folders/tj7a.html
footprint TJ7A_N (D2-PAK, 8-Leads, Body 9.9x10.2mm, Pitch 1.27mm, Lead Span 14mm, IPC Medium Density)
footprint TJ7A_L (D2-PAK, 8-Leads, Body 9.9x10.2mm, Pitch 1.27mm, Lead Span 14mm, IPC High Density)
footprint TJ7A_M (D2-PAK, 8-Leads, Body 9.9x10.2mm, Pitch 1.27mm, Lead Span 14mm, IPC Low Density)
pins: 1 SW (power), 2 VIN (power), 3 BOOT, 4 GND (power), 5 NC, 6 FB (in), 7 EN (in), 8 DAP (power)

## LM22678TJ-5.0/NOPB
designator U?
5A SIMPLE SWITCHER®, Step-Down Voltage Regulator with Precision Enable, 7-pin TO-263 Thin, Pb-Free; PartNumber: LM22678TJ-5.0/NOPB; Manufacturer: National Semiconductor; PackageTopMarking: NSUZXYTTE#*LM22678*TJ-5.0; PowerWise: N; High-Reliability: Y; DatasheetVersion: Dec-2010; PackageVersion: revC, Jan-2008; PackageReference: TJ7A; PackageDescription: Thin TO-263, Molded, 9.85 x 10.16 x 2mm Body, 7 Lead, 1.27mm Pitch, Surface Mount; RoHS: Y; PinCount: 7; CompType: Switcher; ComponentLink1Description: Manufacturer URL; ComponentLink1URL: http://www.national.com/; ComponentLink2Description: LM22678 Datasheet; ComponentLink2URL: http://www.national.com/ds/LM/LM22678.pdf; ComponentLink3Description: LM22678 Web Page; ComponentLink3URL: http://www.national.com/pf/LM/LM22678.html; ComponentLink4Description: TJ7A Package Page; ComponentLink4URL: http://www.national.com/packaging/folders/tj7a.html
footprint TJ7A_N (D2-PAK, 8-Leads, Body 9.9x10.2mm, Pitch 1.27mm, Lead Span 14mm, IPC Medium Density)
footprint TJ7A_L (D2-PAK, 8-Leads, Body 9.9x10.2mm, Pitch 1.27mm, Lead Span 14mm, IPC High Density)
footprint TJ7A_M (D2-PAK, 8-Leads, Body 9.9x10.2mm, Pitch 1.27mm, Lead Span 14mm, IPC Low Density)
pins: 1 SW (power), 2 VIN (power), 3 BOOT, 4 GND (power), 5 NC, 6 FB (in), 7 EN (in), 8 DAP (power)

## LM22678TJ-ADJ
designator U?
5A SIMPLE SWITCHER® Step-Down Voltage Regulator with Precision Enable, 7-pin TO-263 Thin; PartNumber: LM22678TJ-ADJ; Manufacturer: National Semiconductor; PackageTopMarking: NSUZXYTTE#*LM22678*TJ-ADJ; PowerWise: N; High-Reliability: Y; DatasheetVersion: Dec-2010; PackageVersion: revC, Jan-2008; PackageReference: TJ7A; PackageDescription: Thin TO-263, Molded, 9.85 x 10.16 x 2mm Body, 7 Lead, 1.27mm Pitch, Surface Mount; RoHS: Y; PinCount: 7; CompType: Switcher; ComponentLink1Description: Manufacturer URL; ComponentLink1URL: http://www.national.com/; ComponentLink2Description: LM22678 Datasheet; ComponentLink2URL: http://www.national.com/ds/LM/LM22678.pdf; ComponentLink3Description: LM22678 Web Page; ComponentLink3URL: http://www.national.com/pf/LM/LM22678.html; ComponentLink4Description: TJ7A Package Page; ComponentLink4URL: http://www.national.com/packaging/folders/tj7a.html
footprint TJ7A_N (D2-PAK, 8-Leads, Body 9.9x10.2mm, Pitch 1.27mm, Lead Span 14mm, IPC Medium Density)
footprint TJ7A_L (D2-PAK, 8-Leads, Body 9.9x10.2mm, Pitch 1.27mm, Lead Span 14mm, IPC High Density)
footprint TJ7A_M (D2-PAK, 8-Leads, Body 9.9x10.2mm, Pitch 1.27mm, Lead Span 14mm, IPC Low Density)
pins: 1 SW (power), 2 VIN (power), 3 BOOT, 4 GND (power), 5 NC, 6 FB (in), 7 EN (in), 8 DAP (power)

## LM22678TJ-ADJ/NOPB
designator U?
5A SIMPLE SWITCHER®, Step-Down Voltage Regulator with Precision Enable, 7-pin TO-263 Thin, Pb-Free; PartNumber: LM22678TJ-ADJ/NOPB; Manufacturer: National Semiconductor; PackageTopMarking: NSUZXYTTE#*LM22678*TJ-ADJ; PowerWise: N; High-Reliability: Y; DatasheetVersion: Dec-2010; PackageVersion: revC, Jan-2008; PackageReference: TJ7A; PackageDescription: Thin TO-263, Molded, 9.85 x 10.16 x 2mm Body, 7 Lead, 1.27mm Pitch, Surface Mount; RoHS: Y; PinCount: 7; CompType: Switcher; ComponentLink1Description: Manufacturer URL; ComponentLink1URL: http://www.national.com/; ComponentLink2Description: LM22678 Datasheet; ComponentLink2URL: http://www.national.com/ds/LM/LM22678.pdf; ComponentLink3Description: LM22678 Web Page; ComponentLink3URL: http://www.national.com/pf/LM/LM22678.html; ComponentLink4Description: TJ7A Package Page; ComponentLink4URL: http://www.national.com/packaging/folders/tj7a.html
footprint TJ7A_N (D2-PAK, 8-Leads, Body 9.9x10.2mm, Pitch 1.27mm, Lead Span 14mm, IPC Medium Density)
footprint TJ7A_L (D2-PAK, 8-Leads, Body 9.9x10.2mm, Pitch 1.27mm, Lead Span 14mm, IPC High Density)
footprint TJ7A_M (D2-PAK, 8-Leads, Body 9.9x10.2mm, Pitch 1.27mm, Lead Span 14mm, IPC Low Density)
pins: 1 SW (power), 2 VIN (power), 3 BOOT, 4 GND (power), 5 NC, 6 FB (in), 7 EN (in), 8 DAP (power)

## LM22678TJE-5.0/NOPB
designator U?
5A SIMPLE SWITCHER®, Step-Down Voltage Regulator with Precision Enable, 7-pin TO-263 Thin, Pb-Free; PartNumber: LM22678TJE-5.0/NOPB; Manufacturer: National Semiconductor; PackageTopMarking: NSUZXYTTE#*LM22678*TJ-5.0; PowerWise: N; High-Reliability: Y; DatasheetVersion: Dec-2010; PackageVersion: revC, Jan-2008; PackageReference: TJ7A; PackageDescription: Thin TO-263, Molded, 9.85 x 10.16 x 2mm Body, 7 Lead, 1.27mm Pitch, Surface Mount; RoHS: Y; PinCount: 7; CompType: Switcher; ComponentLink1Description: Manufacturer URL; ComponentLink1URL: http://www.national.com/; ComponentLink2Description: LM22678 Datasheet; ComponentLink2URL: http://www.national.com/ds/LM/LM22678.pdf; ComponentLink3Description: LM22678 Web Page; ComponentLink3URL: http://www.national.com/pf/LM/LM22678.html; ComponentLink4Description: TJ7A Package Page; ComponentLink4URL: http://www.national.com/packaging/folders/tj7a.html
footprint TJ7A_N (D2-PAK, 8-Leads, Body 9.9x10.2mm, Pitch 1.27mm, Lead Span 14mm, IPC Medium Density)
footprint TJ7A_L (D2-PAK, 8-Leads, Body 9.9x10.2mm, Pitch 1.27mm, Lead Span 14mm, IPC High Density)
footprint TJ7A_M (D2-PAK, 8-Leads, Body 9.9x10.2mm, Pitch 1.27mm, Lead Span 14mm, IPC Low Density)
pins: 1 SW (power), 2 VIN (power), 3 BOOT, 4 GND (power), 5 NC, 6 FB (in), 7 EN (in), 8 DAP (power)

## LM22678TJE-ADJ/NOPB
designator U?
5A SIMPLE SWITCHER®, Step-Down Voltage Regulator with Precision Enable, 7-pin TO-263 Thin, Pb-Free; PartNumber: LM22678TJE-ADJ/NOPB; Manufacturer: National Semiconductor; PackageTopMarking: NSUZXYTTE#*LM22678*TJ-ADJ; PowerWise: N; High-Reliability: Y; DatasheetVersion: Dec-2010; PackageVersion: revC, Jan-2008; PackageReference: TJ7A; PackageDescription: Thin TO-263, Molded, 9.85 x 10.16 x 2mm Body, 7 Lead, 1.27mm Pitch, Surface Mount; RoHS: Y; PinCount: 7; CompType: Switcher; ComponentLink1Description: Manufacturer URL; ComponentLink1URL: http://www.national.com/; ComponentLink2Description: LM22678 Datasheet; ComponentLink2URL: http://www.national.com/ds/LM/LM22678.pdf; ComponentLink3Description: LM22678 Web Page; ComponentLink3URL: http://www.national.com/pf/LM/LM22678.html; ComponentLink4Description: TJ7A Package Page; ComponentLink4URL: http://www.national.com/packaging/folders/tj7a.html
footprint TJ7A_N (D2-PAK, 8-Leads, Body 9.9x10.2mm, Pitch 1.27mm, Lead Span 14mm, IPC Medium Density)
footprint TJ7A_L (D2-PAK, 8-Leads, Body 9.9x10.2mm, Pitch 1.27mm, Lead Span 14mm, IPC High Density)
footprint TJ7A_M (D2-PAK, 8-Leads, Body 9.9x10.2mm, Pitch 1.27mm, Lead Span 14mm, IPC Low Density)
pins: 1 SW (power), 2 VIN (power), 3 BOOT, 4 GND (power), 5 NC, 6 FB (in), 7 EN (in), 8 DAP (power)

## LM22679TJ-5.0
designator U?
5A SIMPLE SWITCHER® Step-Down Voltage Regulator with Adjustable Soft-Start and Current Limit, 7-pin TO-263 Thin; PartNumber: LM22679TJ-5.0; Manufacturer: National Semiconductor; PackageTopMarking: NSUZXYTTE#*LM22679*TJ-5.0; PowerWise: N; High-Reliability: Y; DatasheetVersion: Oct-2008; PackageVersion: revC, Jan-2008; PackageReference: TJ7A; PackageDescription: Thin TO-263, Molded, 9.85 x 10.16 x 2mm Body, 7 Lead, 1.27mm Pitch, Surface Mount; RoHS: Y; PinCount: 7; CompType: Switcher; ComponentLink1Description: Manufacturer URL; ComponentLink1URL: http://www.national.com/; ComponentLink2Description: LM22679 Datasheet; ComponentLink2URL: http://www.national.com/ds/LM/LM22679.pdf; ComponentLink3Description: LM22679 Web Page; ComponentLink3URL: http://www.national.com/pf/LM/LM22679.html; ComponentLink4Description: TJ7A Package Page; ComponentLink4URL: http://www.national.com/packaging/folders/tj7a.html
footprint TJ7A_N (D2-PAK, 8-Leads, Body 9.9x10.2mm, Pitch 1.27mm, Lead Span 14mm, IPC Medium Density)
footprint TJ7A_L (D2-PAK, 8-Leads, Body 9.9x10.2mm, Pitch 1.27mm, Lead Span 14mm, IPC High Density)
footprint TJ7A_M (D2-PAK, 8-Leads, Body 9.9x10.2mm, Pitch 1.27mm, Lead Span 14mm, IPC Low Density)
pins: 1 SW (power), 2 VIN (power), 3 BOOT, 4 GND (power), 5 IADJ (in), 6 FB (in), 7 SS (in), 8 DAP (power)

## LM22679TJ-5.0/NOPB
designator U?
5A SIMPLE SWITCHER®, Step-Down Voltage Regulator with Adjustable Soft-Start and Current Limit, 7-pin TO-263 Thin, Pb-Free; PartNumber: LM22679TJ-5.0/NOPB; Manufacturer: National Semiconductor; PackageTopMarking: NSUZXYTTE#*LM22679*TJ-5.0; PowerWise: N; High-Reliability: Y; DatasheetVersion: Oct-2008; PackageVersion: revC, Jan-2008; PackageReference: TJ7A; PackageDescription: Thin TO-263, Molded, 9.85 x 10.16 x 2mm Body, 7 Lead, 1.27mm Pitch, Surface Mount; RoHS: Y; PinCount: 7; CompType: Switcher; ComponentLink1Description: Manufacturer URL; ComponentLink1URL: http://www.national.com/; ComponentLink2Description: LM22679 Datasheet; ComponentLink2URL: http://www.national.com/ds/LM/LM22679.pdf; ComponentLink3Description: LM22679 Web Page; ComponentLink3URL: http://www.national.com/pf/LM/LM22679.html; ComponentLink4Description: TJ7A Package Page; ComponentLink4URL: http://www.national.com/packaging/folders/tj7a.html
footprint TJ7A_N (D2-PAK, 8-Leads, Body 9.9x10.2mm, Pitch 1.27mm, Lead Span 14mm, IPC Medium Density)
footprint TJ7A_L (D2-PAK, 8-Leads, Body 9.9x10.2mm, Pitch 1.27mm, Lead Span 14mm, IPC High Density)
footprint TJ7A_M (D2-PAK, 8-Leads, Body 9.9x10.2mm, Pitch 1.27mm, Lead Span 14mm, IPC Low Density)
pins: 1 SW (power), 2 VIN (power), 3 BOOT, 4 GND (power), 5 IADJ (in), 6 FB (in), 7 SS (in), 8 DAP (power)

## LM22679TJ-ADJ
designator U?
5A SIMPLE SWITCHER® Step-Down Voltage Regulator with Adjustable Soft-Start and Current Limit, 7-pin TO-263 Thin; PartNumber: LM22679TJ-ADJ; Manufacturer: National Semiconductor; PackageTopMarking: NSUZXYTTE#*LM22679*TJ-ADJ; PowerWise: N; High-Reliability: Y; DatasheetVersion: Oct-2008; PackageVersion: revC, Jan-2008; PackageReference: TJ7A; PackageDescription: Thin TO-263, Molded, 9.85 x 10.16 x 2mm Body, 7 Lead, 1.27mm Pitch, Surface Mount; RoHS: Y; PinCount: 7; CompType: Switcher; ComponentLink1Description: Manufacturer URL; ComponentLink1URL: http://www.national.com/; ComponentLink2Description: LM22679 Datasheet; ComponentLink2URL: http://www.national.com/ds/LM/LM22679.pdf; ComponentLink3Description: LM22679 Web Page; ComponentLink3URL: http://www.national.com/pf/LM/LM22679.html; ComponentLink4Description: TJ7A Package Page; ComponentLink4URL: http://www.national.com/packaging/folders/tj7a.html
footprint TJ7A_N (D2-PAK, 8-Leads, Body 9.9x10.2mm, Pitch 1.27mm, Lead Span 14mm, IPC Medium Density)
footprint TJ7A_L (D2-PAK, 8-Leads, Body 9.9x10.2mm, Pitch 1.27mm, Lead Span 14mm, IPC High Density)
footprint TJ7A_M (D2-PAK, 8-Leads, Body 9.9x10.2mm, Pitch 1.27mm, Lead Span 14mm, IPC Low Density)
pins: 1 SW (power), 2 VIN (power), 3 BOOT, 4 GND (power), 5 IADJ (in), 6 FB (in), 7 SS (in), 8 DAP (power)

## LM22679TJ-ADJ/NOPB
designator U?
5A SIMPLE SWITCHER®, Step-Down Voltage Regulator with Adjustable Soft-Start and Current Limit, 7-pin TO-263 Thin, Pb-Free; PartNumber: LM22679TJ-ADJ/NOPB; Manufacturer: National Semiconductor; PackageTopMarking: NSUZXYTTE#*LM22679*TJ-ADJ; PowerWise: N; High-Reliability: Y; DatasheetVersion: Oct-2008; PackageVersion: revC, Jan-2008; PackageReference: TJ7A; PackageDescription: Thin TO-263, Molded, 9.85 x 10.16 x 2mm Body, 7 Lead, 1.27mm Pitch, Surface Mount; RoHS: Y; PinCount: 7; CompType: Switcher; ComponentLink1Description: Manufacturer URL; ComponentLink1URL: http://www.national.com/; ComponentLink2Description: LM22679 Datasheet; ComponentLink2URL: http://www.national.com/ds/LM/LM22679.pdf; ComponentLink3Description: LM22679 Web Page; ComponentLink3URL: http://www.national.com/pf/LM/LM22679.html; ComponentLink4Description: TJ7A Package Page; ComponentLink4URL: http://www.national.com/packaging/folders/tj7a.html
footprint TJ7A_N (D2-PAK, 8-Leads, Body 9.9x10.2mm, Pitch 1.27mm, Lead Span 14mm, IPC Medium Density)
footprint TJ7A_L (D2-PAK, 8-Leads, Body 9.9x10.2mm, Pitch 1.27mm, Lead Span 14mm, IPC High Density)
footprint TJ7A_M (D2-PAK, 8-Leads, Body 9.9x10.2mm, Pitch 1.27mm, Lead Span 14mm, IPC Low Density)
pins: 1 SW (power), 2 VIN (power), 3 BOOT, 4 GND (power), 5 IADJ (in), 6 FB (in), 7 SS (in), 8 DAP (power)

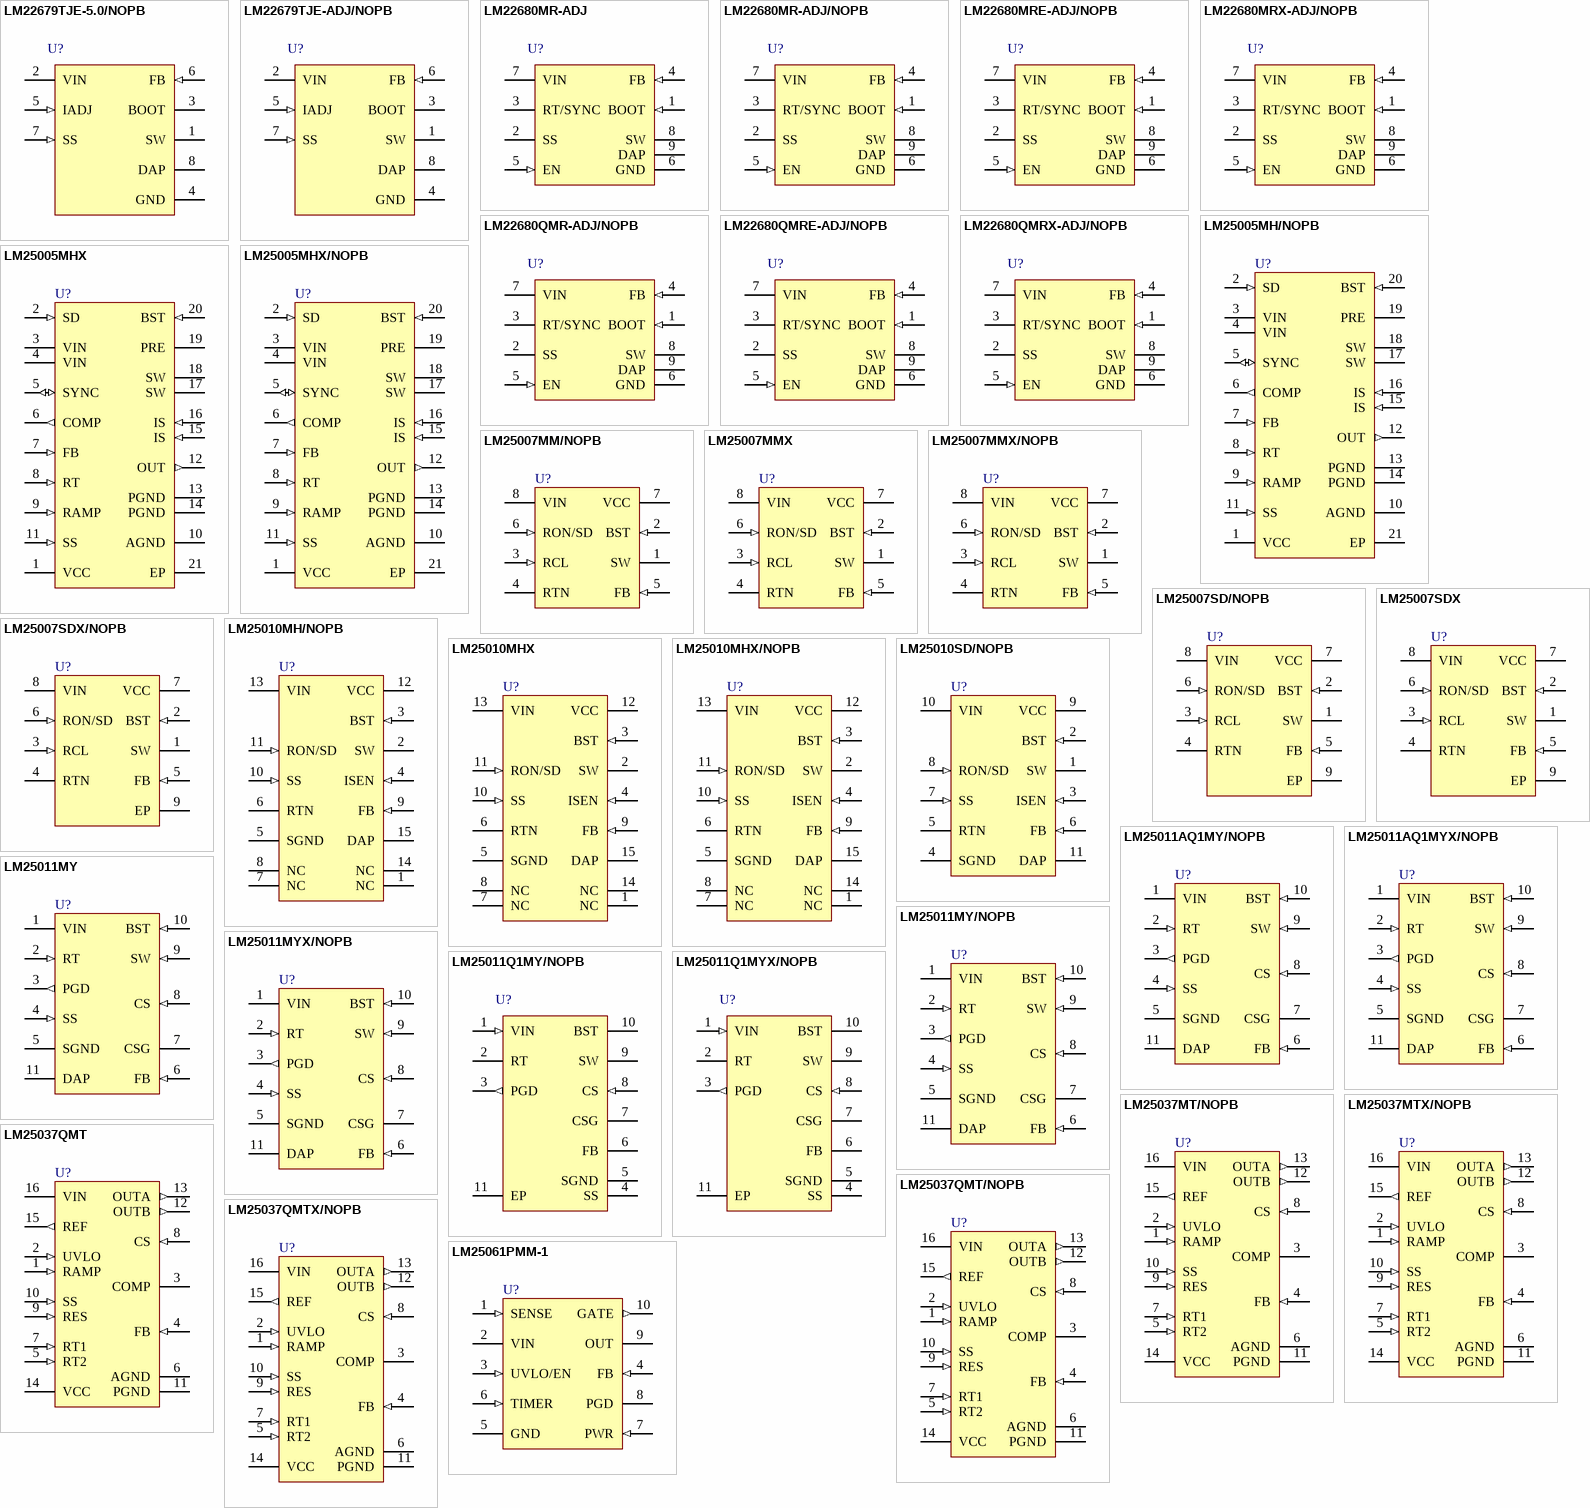
[diagram p55: symbols LM22679TJE-5.0/NOPB to LM25061PMM-1]

## LM22679TJE-5.0/NOPB
designator U?
5A SIMPLE SWITCHER®, Step-Down Voltage Regulator with Adjustable Soft-Start and Current Limit, 7-pin TO-263 Thin, Pb-Free; PartNumber: LM22679TJE-5.0/NOPB; Manufacturer: National Semiconductor; PackageTopMarking: NSUZXYTTE#*LM22679*TJ-5.0; PowerWise: N; High-Reliability: Y; DatasheetVersion: Oct-2008; PackageVersion: revC, Jan-2008; PackageReference: TJ7A; PackageDescription: Thin TO-263, Molded, 9.85 x 10.16 x 2mm Body, 7 Lead, 1.27mm Pitch, Surface Mount; RoHS: Y; PinCount: 7; CompType: Switcher; ComponentLink1Description: Manufacturer URL; ComponentLink1URL: http://www.national.com/; ComponentLink2Description: LM22679 Datasheet; ComponentLink2URL: http://www.national.com/ds/LM/LM22679.pdf; ComponentLink3Description: LM22679 Web Page; ComponentLink3URL: http://www.national.com/pf/LM/LM22679.html; ComponentLink4Description: TJ7A Package Page; ComponentLink4URL: http://www.national.com/packaging/folders/tj7a.html
footprint TJ7A_N (D2-PAK, 8-Leads, Body 9.9x10.2mm, Pitch 1.27mm, Lead Span 14mm, IPC Medium Density)
footprint TJ7A_L (D2-PAK, 8-Leads, Body 9.9x10.2mm, Pitch 1.27mm, Lead Span 14mm, IPC High Density)
footprint TJ7A_M (D2-PAK, 8-Leads, Body 9.9x10.2mm, Pitch 1.27mm, Lead Span 14mm, IPC Low Density)
pins: 1 SW (power), 2 VIN (power), 3 BOOT, 4 GND (power), 5 IADJ (in), 6 FB (in), 7 SS (in), 8 DAP (power)